# Altium footprint library PassiveSMD.PcbLib: 41 footprints (part 3 of 3)
Each footprint in its own frame and in the unit in brackets; x right, y up, seen from the top. Pads: shape width x height; smd on the part's side, far side on the other; paste and mask are expansions set on the pad; w line width, h text height; cw(c..) or ccw(c..) is an arc to the next point about the centre after c.
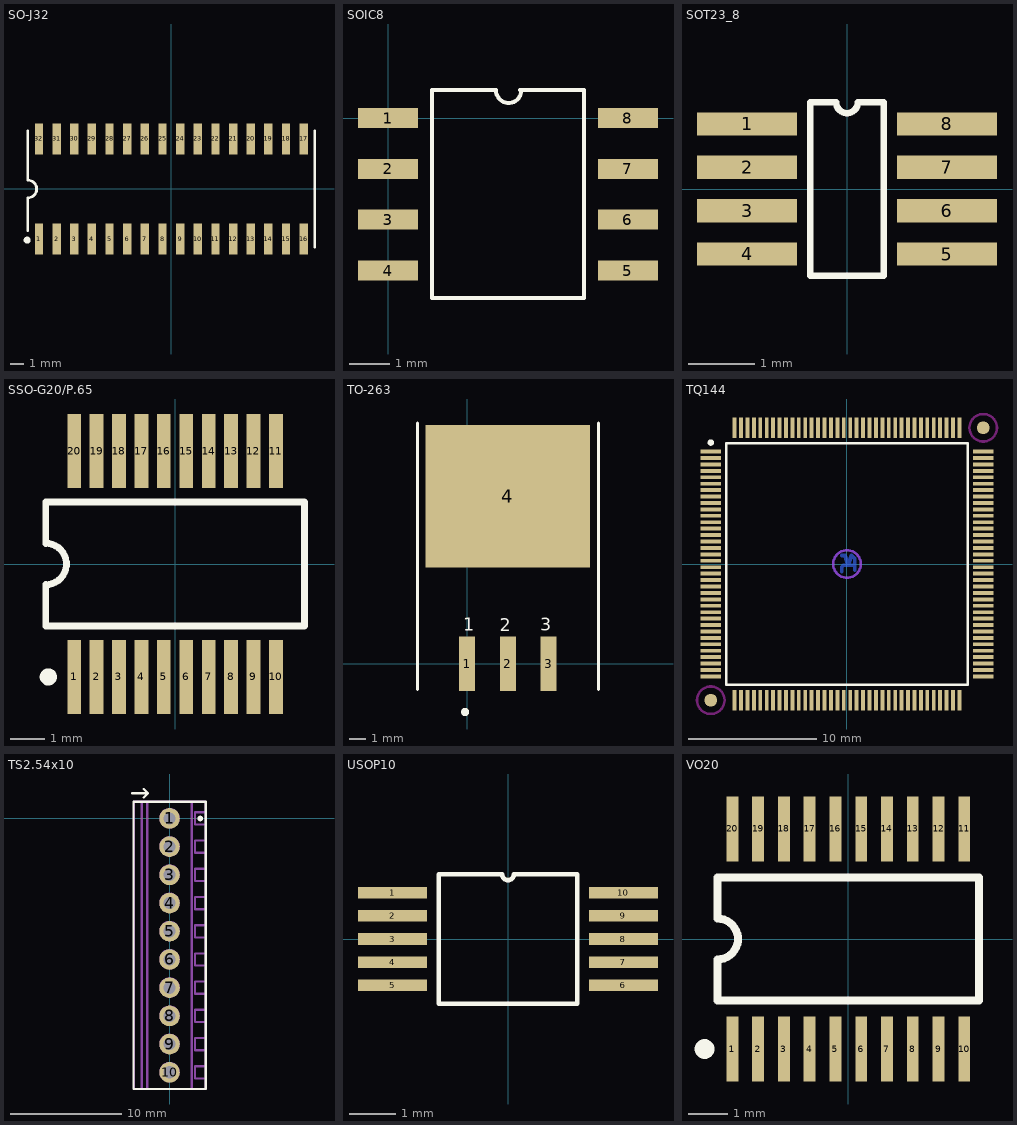
[diagram p2: the footprints below, top view; thin cyan lines are the x and y axes]

## SO-J32 [mm]
pads (32):
  rect 0.6x2.2 smd: 1(-9.525,-3.6) 2(-8.255,-3.6) 3(-6.985,-3.6) 4(-5.715,-3.6) 5(-4.445,-3.6) 6(-3.175,-3.6) 7(-1.905,-3.6) 8(-0.635,-3.6) 9(0.635,-3.6) 10(1.905,-3.6) 11(3.175,-3.6) 12(4.445,-3.6) 13(5.715,-3.6) 14(6.985,-3.6) 15(8.255,-3.6) 16(9.525,-3.6) 17(9.525,3.6) 18(8.255,3.6) 19(6.985,3.6) 20(5.715,3.6) 21(4.445,3.6) 22(3.175,3.6) 23(1.905,3.6) 24(0.635,3.6) 25(-0.635,3.6) 26(-1.905,3.6) 27(-3.175,3.6) 28(-4.445,3.6) 29(-5.715,3.6) 30(-6.985,3.6) 31(-8.255,3.6) 32(-9.525,3.6)
Top Overlay:
  circle w0.25: c-10.375,-3.676 r0.125
  lines w0.2: -10.325,-2.996 -10.325,-0.635 ccw(c-10.325,0) -10.325,0.635 -10.325,4.191 ; 10.325,-4.191 10.325,4.191

## SOIC8 [mm]
pads (8):
  rect 1.5x0.5 smd: 1(0,0) 2(0,-1.27) 3(0,-2.54) 4(0,-3.81) 5(6,-3.81) 6(6,-2.54) 7(6,-1.27) 8(6,0)
Top Overlay:
  lines w0.1: 3.3,0.7 4.9,0.7 4.9,-4.5 1.1,-4.5 1.1,0.7 2.7,0.7 ccw(c3.017,0.7) 3.335,0.7

## SOT23_8 [mm]
pads (8):
  rect 1.5x0.35 smd: 1(-1.5,0.975) 2(-1.5,0.325) 3(-1.5,-0.325) 4(-1.5,-0.975) 5(1.5,-0.975) 6(1.5,-0.325) 7(1.5,0.325) 8(1.5,0.975)
Top Overlay:
  lines w0.1: -0.553,-1.3 -0.553,1.3 -0.162,1.3 ccw(c0,1.3) 0.162,1.3 0.553,1.3 0.553,-1.3 -0.553,-1.3

## SSO-G20/P.65 [mm]
pads (20):
  rect 0.4x2.15 smd: 1(-2.925,-3.275) 2(-2.275,-3.275) 3(-1.625,-3.275) 4(-0.975,-3.275) 5(-0.325,-3.275) 6(0.325,-3.275) 7(0.975,-3.275) 8(1.625,-3.275) 9(2.275,-3.275) 10(2.925,-3.275) 11(2.925,3.275) 12(2.275,3.275) 13(1.625,3.275) 14(0.975,3.275) 15(0.325,3.275) 16(-0.325,3.275) 17(-0.975,3.275) 18(-1.625,3.275) 19(-2.275,3.275) 20(-2.925,3.275)
Top Overlay:
  circle w0.25: c-3.675,-3.275 r0.125
  lines w0.2: -3.75,-1.8 3.75,-1.8 3.75,1.8 -3.75,1.8 -3.75,0.6 cw(c-3.75,0) -3.75,-0.6 -3.75,-1.8

## TO-263 [mm]
pads (4):
  rect 1x3.4 smd: 1(0,0) 2(2.54,0) 3(5.08,0)
  rect 10.25x8.9 smd: 4(2.54,10.45)
Top Overlay:
  circle w0.25: c-0.125,-3 r0.125
  lines w0.2: -3.1,-1.6 -3.1,15 ; 8.2,-1.6 8.2,15
  text "2" at 2.032,2.032 h0.8
  text "3" at 4.572,2.075 h0.8
  text "1" at -0.25,2.075 h0.8

## TQ144 [mm]
pads (146):
  rect 1.6x0.3 smd: 1(-10.6,8.75) 2(-10.6,8.25) 3(-10.6,7.75) 4(-10.6,7.25) 5(-10.6,6.75) 6(-10.6,6.25) 7(-10.6,5.75) 8(-10.6,5.25) 9(-10.6,4.75) 10(-10.6,4.25) 11(-10.6,3.75) 12(-10.6,3.25) 13(-10.6,2.75) 14(-10.6,2.25) 15(-10.6,1.75) 16(-10.6,1.25) 17(-10.6,0.75) 18(-10.6,0.25) 19(-10.6,-0.25) 20(-10.6,-0.75) 21(-10.6,-1.25) 22(-10.6,-1.75) 23(-10.6,-2.25) 24(-10.6,-2.75) 25(-10.6,-3.25) 26(-10.6,-3.75) 27(-10.6,-4.25) 28(-10.6,-4.75) 29(-10.6,-5.25) 30(-10.6,-5.75) 31(-10.6,-6.25) 32(-10.6,-6.75) 33(-10.6,-7.25) 34(-10.6,-7.75) 35(-10.6,-8.25) 36(-10.6,-8.75) 73(10.6,-8.75) 74(10.6,-8.25) 75(10.6,-7.75) 76(10.6,-7.25) 77(10.6,-6.75) 78(10.6,-6.25) 79(10.6,-5.75) 80(10.6,-5.25) 81(10.6,-4.75) 82(10.6,-4.25) 83(10.6,-3.75) 84(10.6,-3.25) 85(10.6,-2.75) 86(10.6,-2.25) 87(10.6,-1.75) 88(10.6,-1.25) 89(10.6,-0.75) 90(10.6,-0.25) 91(10.6,0.25) 92(10.6,0.75) 93(10.6,1.25) 94(10.6,1.75) 95(10.6,2.25) 96(10.6,2.75) 97(10.6,3.25) 98(10.6,3.75) 99(10.6,4.25) 100(10.6,4.75) 101(10.6,5.25) 102(10.6,5.75) 103(10.6,6.25) 104(10.6,6.75) 105(10.6,7.25) 106(10.6,7.75) 107(10.6,8.25) 108(10.6,8.75)
  rect 0.3x1.6 smd: 37(-8.75,-10.6) 38(-8.25,-10.6) 39(-7.75,-10.6) 40(-7.25,-10.6) 41(-6.75,-10.6) 42(-6.25,-10.6) 43(-5.75,-10.6) 44(-5.25,-10.6) 45(-4.75,-10.6) 46(-4.25,-10.6) 47(-3.75,-10.6) 48(-3.25,-10.6) 49(-2.75,-10.6) 50(-2.25,-10.6) 51(-1.75,-10.6) 52(-1.25,-10.6) 53(-0.75,-10.6) 54(-0.25,-10.6) 55(0.25,-10.6) 56(0.75,-10.6) 57(1.25,-10.6) 58(1.75,-10.6) 59(2.25,-10.6) 60(2.75,-10.6) 61(3.25,-10.6) 62(3.75,-10.6) 63(4.25,-10.6) 64(4.75,-10.6) 65(5.25,-10.6) 66(5.75,-10.6) 67(6.25,-10.6) 68(6.75,-10.6) 69(7.25,-10.6) 70(7.75,-10.6) 71(8.25,-10.6) 72(8.75,-10.6) 109(8.75,10.6) 110(8.25,10.6) 111(7.75,10.6) 112(7.25,10.6) 113(6.75,10.6) 114(6.25,10.6) 115(5.75,10.6) 116(5.25,10.6) 117(4.75,10.6) 118(4.25,10.6) 119(3.75,10.6) 120(3.25,10.6) 121(2.75,10.6) 122(2.25,10.6) 123(1.75,10.6) 124(1.25,10.6) 125(0.75,10.6) 126(0.25,10.6) 127(-0.25,10.6) 128(-0.75,10.6) 129(-1.25,10.6) 130(-1.75,10.6) 131(-2.25,10.6) 132(-2.75,10.6) 133(-3.25,10.6) 134(-3.75,10.6) 135(-4.25,10.6) 136(-4.75,10.6) 137(-5.25,10.6) 138(-5.75,10.6) 139(-6.25,10.6) 140(-6.75,10.6) 141(-7.25,10.6) 142(-7.75,10.6) 143(-8.25,10.6) 144(-8.75,10.6)
  round 1 smd: FID1(-10.6,-10.6) "FID 2"(10.6,10.6)
Top Layer keep-out:
  circle w0.2: c-10.6,-10.6 r1.072
  circle w0.2: c10.6,10.6 r1.072
Bottom Layer:
  lines w0.3: -0.408,-0.608 -0.408,-0.227 -0.281,-0.1 0.608,-0.1 ; -0.408,0.662 -0.154,0.662 0.075,-0.1 0.354,0.662 0.608,0.408 0.608,-0.481
Bottom Layer keep-out:
  circle w0.2: c0,0 r1.072
Top Overlay:
  circle w0.25: c-10.6,9.45 r0.125
  lines w0.2: -9.4,-9.4 -9.4,9.4 9.4,9.4 9.4,-9.4 -9.4,-9.4

## TS2.54x10 [mm]
pads (10):
  round 1.85 hole 1.1: 1(0,0) 2(0,-2.54) 3(0,-5.08) 4(0,-7.62) 5(0,-10.16) 6(0,-12.7) 7(0,-15.24) 8(0,-17.78) 9(0,-20.32) 10(0,-22.86)
Top Overlay:
  circle w0.25: c2.76,-0.005 r0.125
  lines w0.2: -3.35,2.27 -1.94,2.27 ; -2.32,1.89 -1.94,2.27 ; -2.32,2.65 -1.94,2.27 ; -3.25,-24.36 3.25,-24.36 3.25,1.5 -3.25,1.5 -3.25,-24.36
Mechanical 15:
  circle w0.254: c0,0.02 r0.8
  circle w0.254: c0,-2.52 r0.8
  circle w0.254: c0,-5.06 r0.8
  circle w0.254: c0,-7.6 r0.8
  circle w0.254: c0,-10.14 r0.8
  circle w0.254: c0,-12.68 r0.8
  circle w0.254: c0,-15.22 r0.8
  circle w0.254: c0,-17.76 r0.8
  circle w0.254: c0,-20.3 r0.8
  circle w0.254: c0,-22.84 r0.8
  lines w0.2: -2.5,1.44 -2.5,-24.36 ; -2,-24.3 -2,1.5 ; -0.7,-2.1 0.4,-3.2 ; -0.7,0.4 0.3,-0.6 ; -0.62,-22.43 0.4,-23.44 ; -0.62,-19.93 0.37,-20.92 ; -0.62,-17.39 0.37,-18.38 ; -0.62,-14.84 0.38,-15.84 ; -0.62,-12.32 0.33,-13.27 ; -0.6,-7.2 0.4,-8.2 ; -0.6,-4.7 0.3,-5.6 ; -0.59,-9.79 0.39,-10.77 ; -0.2,-22.16 0.7,-23.06 ; -0.2,-19.62 0.7,-20.52 ; -0.2,-17.08 0.7,-17.98 ; -0.2,-14.54 0.7,-15.44 ; -0.2,-12 0.7,-12.9 ; -0.2,-9.46 0.7,-10.36 ; -0.2,-6.92 0.7,-7.82 ; -0.2,-4.38 0.7,-5.28 ; -0.2,-1.84 0.7,-2.74 ; -0.2,0.7 0.7,-0.2 ; 2,-24.36 2,1.51 ; 3.2,-23.41 2.3,-23.41 2.3,-22.31 3.2,-22.31 ; 3.2,-20.87 2.3,-20.87 2.3,-19.77 3.2,-19.77 ; 3.2,-18.33 2.3,-18.33 2.3,-17.23 3.2,-17.23 ; 3.2,-15.79 2.3,-15.79 2.3,-14.69 3.2,-14.69 ; 3.2,-13.25 2.3,-13.25 2.3,-12.15 3.2,-12.15 ; 3.2,-5.63 2.3,-5.63 2.3,-4.53 3.2,-4.53 ; 3.2,-3.09 2.3,-3.09 2.3,-1.99 3.2,-1.99 ; 3.2,-0.55 2.3,-0.55 2.3,0.55 3.2,0.55 ; -3.2,1.51 3.24,1.51 ; -3.2,1.51 -3.19,-24.35 -2.5,-24.36 ; -3.2,1.51 3.24,1.51 ; -2.5,-24.36 3.24,-24.35 3.24,1.51 ; 2.3,-10.71 2.3,-9.61 ; 2.3,-10.71 3.2,-10.71 2.3,-10.71 ; 2.3,-10.71 2.3,-9.61 ; 2.3,-9.61 3.2,-9.61 2.3,-9.61 ; 2.3,-8.17 2.3,-7.07 ; 2.3,-8.17 3.2,-8.17 2.3,-8.17 ; 2.3,-8.17 2.3,-7.07 ; 2.3,-7.07 3.2,-7.07 2.3,-7.07

## USOP10 [mm]
pads (10):
  rect 1.5x0.25 smd: 1(-2.5,1) 2(-2.5,0.5) 3(-2.5,0) 4(-2.5,-0.5) 5(-2.5,-1) 6(2.5,-1) 7(2.5,-0.5) 8(2.5,0) 9(2.5,0.5) 10(2.5,1)
Top Overlay:
  lines w0.1: -0.15,1.4 -1.5,1.4 -1.5,-1.4 1.5,-1.4 1.5,1.4 0.15,1.4 ; -0.125,1.4 ccw(c0,1.4) 0.125,1.4

## VO20 [mm]
pads (20):
  rect 0.3x1.65 smd: 1(-2.925,-2.775) 2(-2.275,-2.775) 3(-1.625,-2.775) 4(-0.975,-2.775) 5(-0.325,-2.775) 6(0.325,-2.775) 7(0.975,-2.775) 8(1.625,-2.775) 9(2.275,-2.775) 10(2.925,-2.775) 11(2.925,2.775) 12(2.275,2.775) 13(1.625,2.775) 14(0.975,2.775) 15(0.325,2.775) 16(-0.325,2.775) 17(-0.975,2.775) 18(-1.625,2.775) 19(-2.275,2.775) 20(-2.925,2.775)
Top Overlay:
  circle w0.25: c-3.625,-2.775 r0.125
  lines w0.2: -3.3,-1.55 -3.3,-0.517 ccw(c-3.3,0) -3.3,0.517 -3.3,1.55 3.3,1.55 3.3,-1.55 -3.3,-1.55